# Altium footprint library TDFN10.PcbLib: 1 footprints
Each footprint in its own frame and in the unit in brackets; x right, y up, seen from the top. Pads: shape width x height; smd on the part's side, far side on the other; paste and mask are expansions set on the pad; w line width, h text height; cw(c..) or ccw(c..) is an arc to the next point about the centre after c.
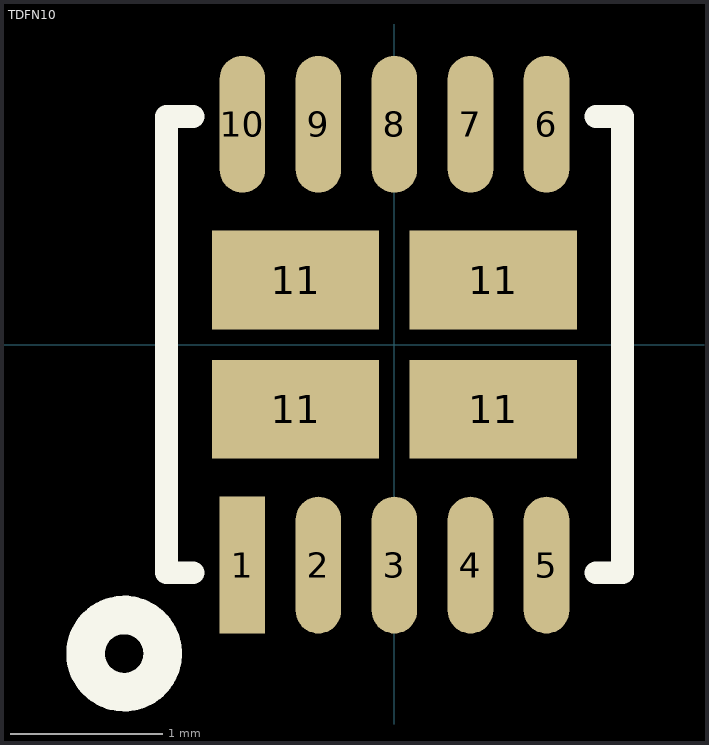
[diagram p0: the footprint, top view; thin cyan lines are the x and y axes]

## TDFN10 [mm]
pads (14):
  rect 0.3x0.9 smd: 1(-1,-1.45)
  oval 0.3x0.9 smd: 2(-0.5,-1.45) 3(0,-1.45) 4(0.5,-1.45) 5(1,-1.45) 6(1,1.45) 7(0.5,1.45) 8(0,1.45) 9(-0.5,1.45) 10(-1,1.45)
  rect 1.1x0.65 smd: 11(-0.65,-0.425) 11(-0.65,0.425) 11(0.65,-0.425) 11(0.65,0.425)
Top Overlay:
  circle w0.254: c-1.778,-2.032 r0.254
  lines w0.15: -1.325,-1.5 -1.5,-1.5 -1.5,1.5 -1.325,1.5 ; 1.325,-1.5 1.5,-1.5 1.5,1.5 1.325,1.5
3D body: height 1, standoff 0, extent -1.524,-1.524 1.524,1.524